# Altium integrated library Fuses.IntLib: 2 symbols
Pins are listed as number, name and electrical type; pins without a type are passive.

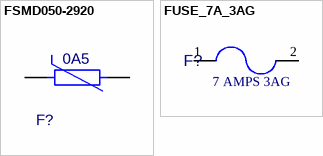
[diagram p0: symbols FSMD050-2920 to FUSE_7A_3AG]

## FSMD050-2920
designator F?, comment value 0A5  (hidden comment: 70661-342)
Fuse Resettable 0.5A; Power Rating: 1W5; Librarian: UK; ECAD_Revision: 1; PartNumber: 70661-342; HelpURL: *; Tolerance: *
footprint FSMD050-2920
pins: 1, 2

## FUSE_7A_3AG
designator F?, comment value 7 AMPS 3AG  (hidden comment: 15454-0157)
Fuse, 7 AMPS 3AG; PartNumber: 15454-0157; Item: *; HelpURL: K:\ACCELEDA\PDF Spec Files\MISS\
footprint F1
pins: 1 A, 2 B, 3 A, 4 B